# EAGLE library part TPD4E001 (library project)
4-Channel ESD Clamp Array Source: http://focus.ti.com/lit/ds/symlink/tpd4e001.pdf
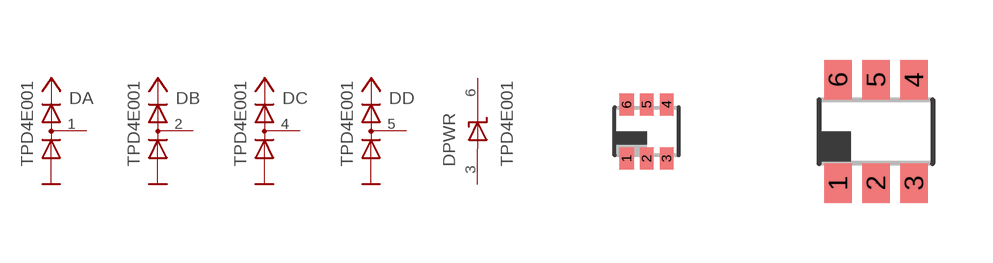
[diagram p15: symbol with the pads of DRL_R-PDSO-N6; footprints DRL_R-PDSO-N6, DBV_R-PDSO-G6]

Designator prefix D; gates A=TPDXE B=TPDXE C=TPDXE D=TPDXE PWR=TPDXEPWR

## TPD4E001DRLR  [DRL_R-PDSO-N6]
1  A:1  pas
2  B:1  pas
3  PWR:GND  pwr
4  C:1  pas
5  D:1  pas
6  PWR:VCC  pwr

## TPD4E001DBVR  [DBV_R-PDSO-G6]
1  A:1  pas
2  PWR:GND  pwr
3  B:1  pas
4  C:1  pas
5  PWR:VCC  pwr
6  D:1  pas

## TPD4E001DCKR  [DCK_R-PDSO-G6]
Pads as for DBV_R-PDSO-G6

## Footprint DRL_R-PDSO-N6 (pad centres in mm)
DRL (R-PDSO-N6) PLASTIC SMALL OUTLINE SOT (SOT-553) - DRL Source: http://focus.ti.com/lit/ds/symlink/sn74lvc1g3157.pdf
smd 0.35 x 0.55: 1 -0.5,-0.675; 2 0,-0.675; 3 0.5,-0.675; 4 0.5,0.675; 5 0,0.675; 6 -0.5,0.675

## Footprint DBV_R-PDSO-G6 (pad centres in mm)
DBV (R-PDSO-G6) PLASTIC SMALL-OUTLINE PACKAGE SOT (SOT-23) - DBV Source: http://focus.ti.com/lit/ds/symlink/sn74lvc1g3157.
smd 0.69 x 0.99: 1 -0.95,-1.29; 2 0,-1.29; 3 0.95,-1.29; 4 0.95,1.3; 5 0,1.3; 6 -0.95,1.3

## Footprint DCK_R-PDSO-G6 (pad centres in mm)
DCK (R-PDSO-G6) PLASTIC SMALL-OUTLINE PACKAGE SOT (SC-70) - DCK Source: http://focus.ti.com/lit/ds/symlink/sn74lvc1g3157.
smd 0.4 x 0.7: 1 -0.65,-0.85; 2 0,-0.85; 3 0.65,-0.85; 4 0.65,0.85; 5 0,0.85; 6 -0.65,0.85